# Altium footprint library ComponentsLib.PcbLib: 13 footprints
Each footprint in its own frame and in the unit in brackets; x right, y up, seen from the top. Pads: shape width x height; smd on the part's side, far side on the other; paste and mask are expansions set on the pad; w line width, h text height; cw(c..) or ccw(c..) is an arc to the next point about the centre after c.
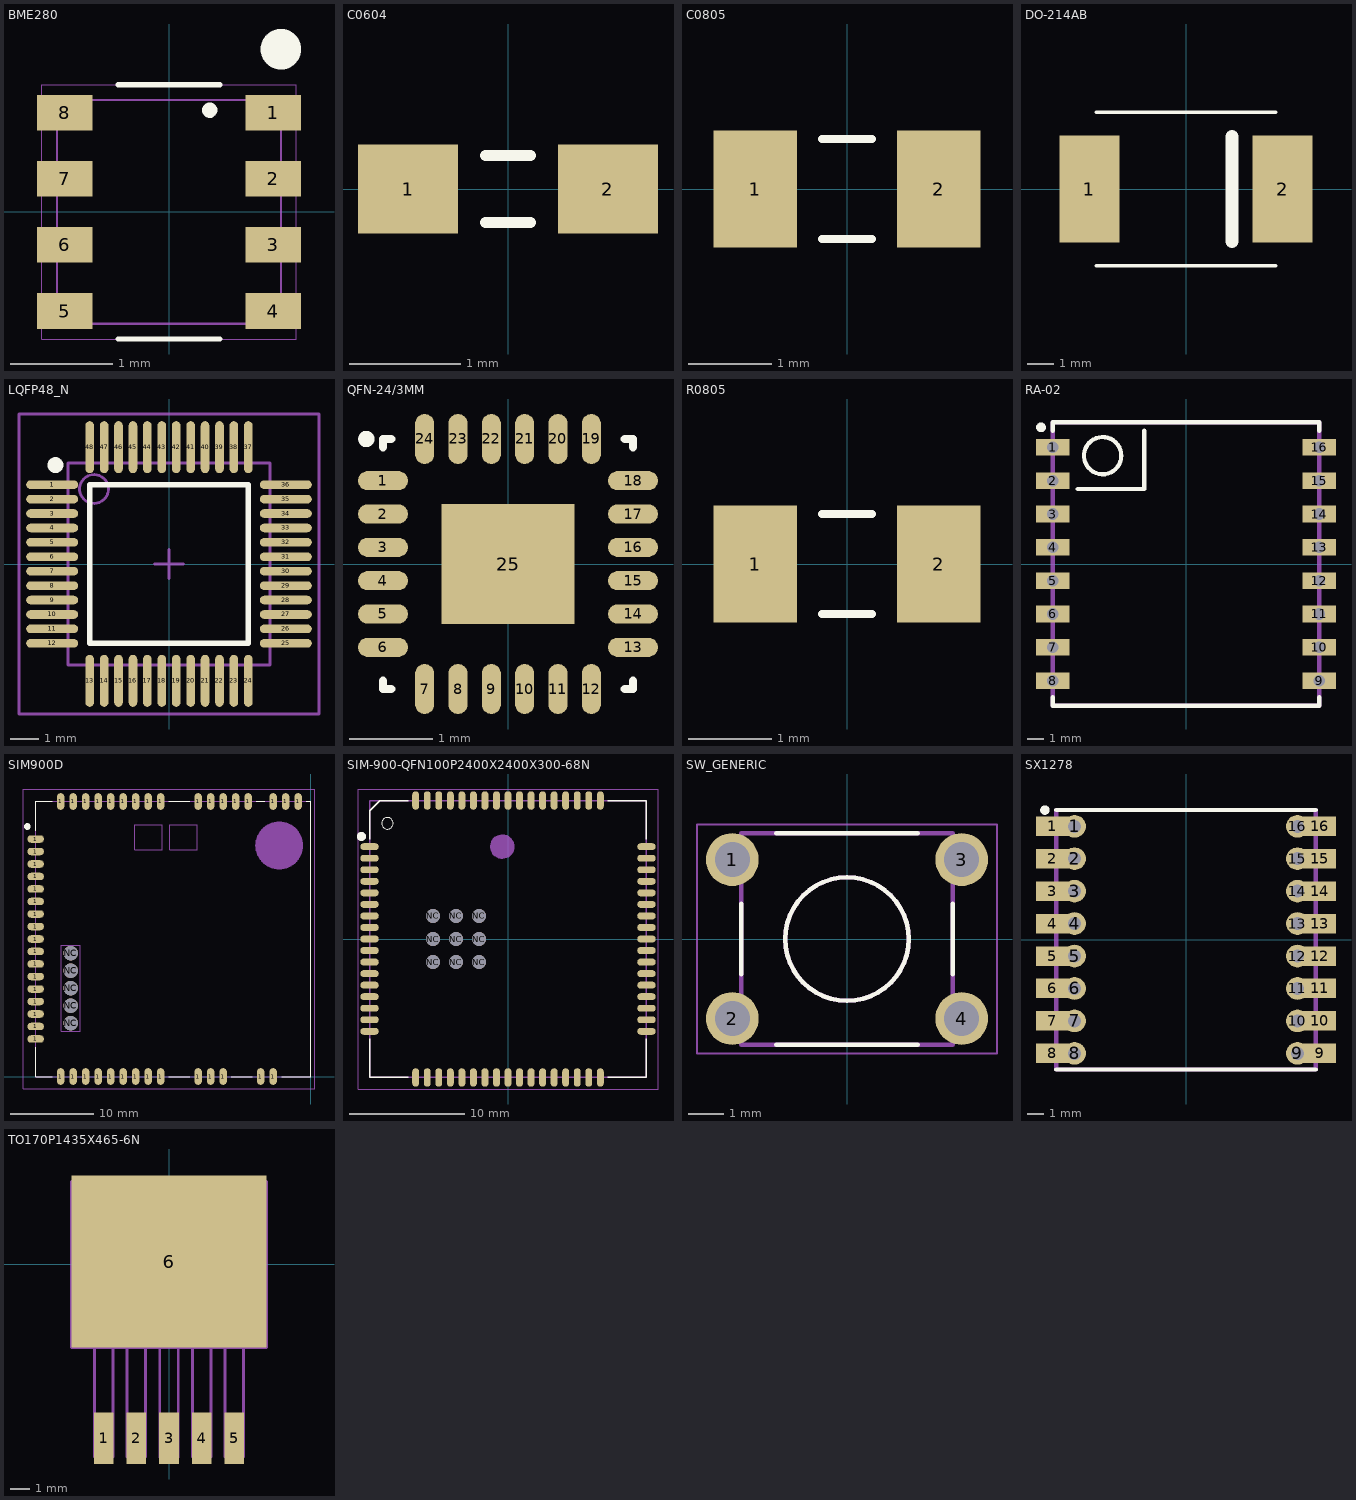
[diagram p0: the footprints below, top view; thin cyan lines are the x and y axes]

## BME280 [mm]
pads (8):
  rect 0.55x0.35 smd: 1(1.025,0.975) 2(1.025,0.325) 3(1.025,-0.325) 4(1.025,-0.975) 5(-1.025,-0.975) 6(-1.025,-0.325) 7(-1.025,0.325) 8(-1.025,0.975)
Top Overlay:
  circle w0.1: c0.4,1 r0.025
  circle w0.2: c1.1,1.6 r0.1
  lines w0.05: -0.5,-1.25 0.5,-1.25 ; -0.5,1.25 0.5,1.25
Mechanical 1:
  lines w0.01: -1.25,-1.25 1.25,-1.25 1.25,1.25 -1.25,1.25 -1.25,-1.25
  lines w0.02: -1.1,-1 -1.1,1 ; -1,-1.1 1,-1.1 ; -1,1.1 1,1.1 ; 1.1,-1 1.1,1
3D body "User Library-Bosch_BME280.step": height 0.93, standoff 0, extent -1.25,-1.25 1.25,1.25

## C0604 [mm]
pads (2):
  rect 0.9x0.8 smd: 1(-0.9,0) 2(0.9,0)
Top Overlay:
  lines w0.1: -0.2,-0.3 0.2,-0.3 ; -0.2,0.3 0.2,0.3
3D body "User Library-C0603-2.step": height 0.8, standoff 0, extent -0.8,-0.4 0.8,0.4

## C0805 [mm]
pads (2):
  rect 1x1.4 smd: 1(-1.1,0) 2(1.1,0)
Top Overlay:
  lines w0.1: -0.3,-0.6 0.3,-0.6 ; -0.3,0.6 0.3,0.6
3D body "User Library-C0805-2.step": height 0.8, standoff 0, extent -1,-0.625 1,0.625

## DO-214AB [mil]
pads (2):
  rect 90x160 smd: 1(-145,0) 2(145,0)
Top Overlay:
  lines w5: -135,-115 135,-115 ; -135,115 135,115
  lines w20: 68.9,-78.74 68.9,78.74
3D body "User Library-DO-214AB-SMC.step": height 98.46, standoff 1.97, extent -153.54,-116.14 153.54,116.14

## LQFP48_N [mm] "Thin QFP, 48-Leads, Body 7x7mm, Pitch 0.5mm, IPC Medium Density"
height 1.6
pads (48):
  oval 1.8x0.3 smd: 1(-4.05,2.75) 2(-4.05,2.25) 3(-4.05,1.75) 4(-4.05,1.25) 5(-4.05,0.75) 6(-4.05,0.25) 7(-4.05,-0.25) 8(-4.05,-0.75) 9(-4.05,-1.25) 10(-4.05,-1.75) 11(-4.05,-2.25) 12(-4.05,-2.75) 25(4.05,-2.75) 26(4.05,-2.25) 27(4.05,-1.75) 28(4.05,-1.25) 29(4.05,-0.75) 30(4.05,-0.25) 31(4.05,0.25) 32(4.05,0.75) 33(4.05,1.25) 34(4.05,1.75) 35(4.05,2.25) 36(4.05,2.75)
  oval 0.3x1.8 smd: 13(-2.75,-4.05) 14(-2.25,-4.05) 15(-1.75,-4.05) 16(-1.25,-4.05) 17(-0.75,-4.05) 18(-0.25,-4.05) 19(0.25,-4.05) 20(0.75,-4.05) 21(1.25,-4.05) 22(1.75,-4.05) 23(2.25,-4.05) 24(2.75,-4.05) 37(2.75,4.05) 38(2.25,4.05) 39(1.75,4.05) 40(1.25,4.05) 41(0.75,4.05) 42(0.25,4.05) 43(-0.25,4.05) 44(-0.75,4.05) 45(-1.25,4.05) 46(-1.75,4.05) 47(-2.25,4.05) 48(-2.75,4.05)
Top Overlay:
  circle w0.3: c-3.937,3.429 r0.127
  lines w0.2: -2.75,-2.75 2.75,-2.75 2.75,2.75 -2.75,2.75 -2.75,-2.75
Mechanical 13:
  circle w0.1: c-2.6,2.6 r0.5
  lines w0.1: -3.5,-3.5 3.5,-3.5 3.5,3.5 -3.5,3.5 -3.5,-3.5
Mechanical 15:
  lines w0.1: -0.5,0 0.5,0 ; 0,-0.5 0,0.5 ; -5.2,-5.2 5.2,-5.2 5.2,5.2 -5.2,5.2 -5.2,-5.2
3D body "User Library-LQFP50P900X900X160.STEP": height 1.6, standoff 0, extent -4.5,-4.5 4.5,4.5

## QFN-24/3MM [mm]
pads (25):
  oval 0.6x0.23 smd: 1(-1.5,1) 2(-1.5,0.6) 3(-1.5,0.2) 4(-1.5,-0.2) 5(-1.5,-0.6) 6(-1.5,-1) 13(1.5,-1) 14(1.5,-0.6) 15(1.5,-0.2) 16(1.5,0.2) 17(1.5,0.6) 18(1.5,1)
  oval 0.23x0.6 smd: 7(-1,-1.5) 8(-0.6,-1.5) 9(-0.2,-1.5) 10(0.2,-1.5) 11(0.6,-1.5) 12(1,-1.5) 19(1,1.5) 20(0.6,1.5) 21(0.2,1.5) 22(-0.2,1.5) 23(-0.6,1.5) 24(-1,1.5)
  rect 1.6x1.44 smd: 25(0,0)
Top Overlay:
  circle w0.1: c-1.7,1.5 r0.048
  lines w0.1: -1.5,-1.4 -1.5,-1.5 -1.4,-1.5 ; -1.5,1.4 -1.5,1.5 -1.4,1.5 ; 1.4,-1.5 1.5,-1.5 1.5,-1.4 ; 1.4,1.5 1.5,1.5 1.5,1.4
3D body "User Library-MPU9250.step": height 1, standoff -0.05, extent -1.51,-1.51 1.51,1.51

## R0805 [mm]
pads (2):
  rect 1x1.4 smd: 1(-1.1,0) 2(1.1,0)
Top Overlay:
  lines w0.1: -0.3,-0.6 0.3,-0.6 ; -0.3,0.6 0.3,0.6
3D body "User Library-RES_2013-0805.step": height 0.76, standoff 0, extent -1.15,-0.675 1.15,0.675

## RA-02 [mm]
pads (16):
  rect 2x1 hole 0.7: 1(-8,7) 2(-8,5) 3(-8,3) 4(-8,1) 5(-8,-1) 6(-8,-3) 7(-8,-5) 8(-8,-7) 9(8,-7) 10(8,-5) 11(8,-3) 12(8,-1) 13(8,1) 14(8,3) 15(8,5) 16(8,7)
Top Overlay:
  circle w0.38: c-8.7,8.2 r0.1
  circle w0.254: c-5,6.5 r1.118
  lines w0.254: -8,-8 -8,-8.5 8,-8.5 8,-8 ; -8,8 -8,8.5 8,8.5 8,8 ; -6.5,4.5 -2.5,4.5 -2.5,8
Mechanical 1:
  lines w0.254: -8,-8.5 8,-8.5 8,8.5 -8,8.5 -8,-8.5
3D body: height 3.2, standoff 0.2, extent -7,-8 7,8
3D body: height 1, standoff 0.1, extent -8,-8.5 8,8.5
3D body "User Library-Microaxial RF connector.step": height 2.35, standoff 1.09, extent -6.5,4.95 -3.5,8.05

## SIM900D [mm]
pads (53):
  oval 2x0.9 smd: 1(-33,4.5) 1(-33,6) 1(-33,7.5) 1(-33,9) 1(-33,10.5) 1(-33,12) 1(-33,13.5) 1(-33,15) 1(-33,16.5) 1(-33,18) 1(-33,19.5) 1(-33,21) 1(-33,22.5) 1(-33,24) 1(-33,25.5) 1(-33,27) 1(-33,28.5)
  oval 0.9x2 smd: 1(-30,0) 1(-30,33) 1(-28.5,0) 1(-28.5,33) 1(-27,0) 1(-27,33) 1(-25.5,0) 1(-25.5,33) 1(-24,0) 1(-24,33) 1(-22.5,0) 1(-22.5,33) 1(-21,0) 1(-21,33) 1(-19.5,0) 1(-19.5,33) 1(-18,0) 1(-18,33) 1(-13.5,0) 1(-13.5,33) 1(-12,0) 1(-12,33) 1(-10.5,0) 1(-10.5,33) 1(-9,33) 1(-7.5,33) 1(-6,0) 1(-4.5,0) 1(-4.5,33) 1(-3,33) 1(-1.5,33)
  round 1.75 hole 1.75 unplated: NC(-28.8,6.4) NC(-28.8,8.5) NC(-28.8,10.6) NC(-28.8,12.7) NC(-28.8,14.8)
Top Overlay:
  circle w0.4: c-34,30 r0.2
  lines w0.127: -33,3.5 -33,0 -31,0 ; -33,29.5 -33,33 -31,33 ; -17,0 -14.5,0 ; -17,33 -14.5,33 ; -9.5,0 -7,0 ; -6.5,33 -5.5,33 ; -3.5,0 0,0 0,33 -0.5,33
Mechanical 1:
  circle w0.254: c-3.775,27.725 r2.75
  region: -6.5,27.75 -6.25,28.75 -5.75,29.75 -4.75,30.25 -3.75,30.5 -2.75,30.25 -1.75,29.75 -1.25,28.75 -1,27.75 -1.25,26.5 -1.75,25.75 -2.75,25.25 -3.75,25 -4.75,25.25 -5.75,25.75 -6.25,26.5
  lines w0.05: -34.5,-1.5 0.5,-1.5 0.5,34.5 -34.5,34.5 -34.5,-1.5 ; -29.95,5.45 -29.95,15.75 -27.65,15.75 -27.65,5.45 -29.95,5.45 ; -21.1,27.2 -21.1,30.2 -17.8,30.2 -17.8,27.2 -21.1,27.2 ; -16.9,27.2 -16.9,30.2 -13.6,30.2 -13.6,27.2 -16.9,27.2
  lines w0.127: -33,0 0,0 0,33 -33,33 -33,0
3D body "User Library-SIM900D.step": height 3.06, standoff 0, extent -33,0 0,33

## SIM-900-QFN100P2400X2400X300-68N [mm]
pads (77):
  oval 1.6x0.6 smd: 1(-12,8) 2(-12,7) 3(-12,6) 4(-12,5) 5(-12,4) 6(-12,3) 7(-12,2) 8(-12,1) 9(-12,0) 10(-12,-1) 11(-12,-2) 12(-12,-3) 13(-12,-4) 14(-12,-5) 15(-12,-6) 16(-12,-7) 17(-12,-8) 35(12,-8) 36(12,-7) 37(12,-6) 38(12,-5) 39(12,-4) 40(12,-3) 41(12,-2) 42(12,-1) 43(12,0) 44(12,1) 45(12,2) 46(12,3) 47(12,4) 48(12,5) 49(12,6) 50(12,7) 51(12,8)
  oval 0.6x1.6 smd: 18(-8,-12) 19(-7,-12) 20(-6,-12) 21(-5,-12) 22(-4,-12) 23(-3,-12) 24(-2,-12) 25(-1,-12) 26(0,-12) 27(1,-12) 28(2,-12) 29(3,-12) 30(4,-12) 31(5,-12) 32(6,-12) 33(7,-12) 34(8,-12) 52(8,12) 53(7,12) 54(6,12) 55(5,12) 56(4,12) 57(3,12) 58(2,12) 59(1,12) 60(0,12) 61(-1,12) 62(-2,12) 63(-3,12) 64(-4,12) 65(-5,12) 66(-6,12) 67(-7,12) 68(-8,12)
  round 1.2 hole 1.2 unplated: NC(-6.5,-2) NC(-6.5,0) NC(-6.5,2) NC(-4.5,-2) NC(-4.5,0) NC(-4.5,2) NC(-2.5,-2) NC(-2.5,0) NC(-2.5,2)
Top Overlay:
  circle w0.4: c-12.7,8.89 r0.2
  circle w0: c-10.45,10.025 r0.5
  lines w0.127: -12,-8.636 -12,-12 -8.636,-12 ; -12,8.636 -12,11.1 -11.1,12 -8.636,12 ; 8.636,-12 12,-12 12,-8.636 ; 8.636,12 12,12 12,8.636
Mechanical 1:
  circle w0.127: c-0.5,8 r1
  circle w0.127: c-0.5,8 r1
  region: -1.5,8 -1.5,8.026 -1.497,8.078 -1.492,8.131 -1.484,8.182 -1.473,8.234 -1.459,8.284 -1.443,8.334 -1.424,8.383 -1.403,8.431 -1.379,8.477 -1.353,8.523 -1.324,8.567 -1.294,8.609 -1.261,8.65 -1.226,8.689 -1.189,8.726 -1.15,8.761 -1.109,8.794 -1.067,8.824 -1.023,8.853 -0.977,8.879 -0.931,8.903 -0.883,8.924 -0.834,8.943 -0.784,8.959 -0.734,8.973 -0.682,8.984 -0.631,8.992 -0.578,8.997 -0.526,9 -0.5,9 -0.474,9 -0.422,8.997 -0.369,8.992 -0.318,8.984 -0.266,8.973 -0.216,8.959 -0.166,8.943 -0.117,8.924 -0.069,8.903 -0.023,8.879 0.023,8.853 0.067,8.824 0.109,8.794 0.15,8.761 0.189,8.726 0.226,8.689 0.261,8.65 0.294,8.609 0.324,8.567 0.353,8.523 0.379,8.477 0.403,8.431 0.424,8.383 0.443,8.334 0.459,8.284 0.473,8.234 0.484,8.182 0.492,8.131 0.497,8.078 0.5,8.026 0.5,8 0.5,7.974 0.497,7.922 0.492,7.869 0.484,7.818 0.473,7.766 0.459,7.716 0.443,7.666 0.424,7.617 0.403,7.569 0.379,7.523 0.353,7.477 0.324,7.433 0.294,7.391 0.261,7.35 0.226,7.311 0.189,7.274 0.15,7.239 0.109,7.206 0.067,7.176 0.023,7.147 -0.023,7.121 -0.069,7.097 -0.117,7.076 -0.166,7.057 -0.216,7.041 -0.266,7.027 -0.318,7.016 -0.369,7.008 -0.422,7.003 -0.474,7 -0.5,7 -0.526,7 -0.578,7.003 -0.631,7.008 -0.682,7.016 -0.734,7.027 -0.784,7.041 -0.834,7.057 -0.883,7.076 -0.931,7.097 -0.977,7.121 -1.023,7.147 -1.067,7.176 -1.109,7.206 -1.15,7.239 -1.189,7.274 -1.226,7.311 -1.261,7.35 -1.294,7.391 -1.324,7.433 -1.353,7.477 -1.379,7.523 -1.403,7.569 -1.424,7.617 -1.443,7.666 -1.459,7.716 -1.473,7.766 -1.484,7.818 -1.492,7.869 -1.497,7.922 -1.5,7.974
  lines w0.05: -13,-13 13,-13 13,13 -13,13 -13,-13
  lines w0.127: -12,-12 -12,12 12,12 12,-12 -12,-12
3D body "User Library-SIM900.step": height 3.02, standoff 0, extent -12,-12 12,12

## SW_GENERIC [mm]
pads (4):
  round 1.498 hole 0.99: 1(-3.25,2.25) 2(-3.25,-2.25) 3(3.25,2.25) 4(3.25,-2.25)
Top Overlay:
  circle w0.127: c0,0 r1.75
  lines w0.127: -3,-1 -3,1 ; -2,-3 2,-3 ; -2,3 2,3 ; 3,-1 3,1
Mechanical 1:
  circle w0.4: c-3.25,2.25 r0.2
  circle w0.127: c0,0 r1.75
  lines w0.05: -4.25,-3.245 -4.25,3.25 4.25,3.25 4.25,-3.245 -4.25,-3.245
  lines w0.127: -2.995,-2.995 2.995,-2.995 2.995,2.995 -2.995,2.995 -2.995,-2.995
3D body "43359.stp": height 4.3, standoff -3.5, extent -3.95,-3.1 3.95,3.1

## SX1278 [mm]
pads (32):
  rect 2x1.2 smd: 1(-8.25,7) 2(-8.25,5) 3(-8.25,3) 4(-8.25,1) 5(-8.25,-1) 6(-8.25,-3) 7(-8.25,-5) 8(-8.25,-7) 9(8.25,-7) 10(8.25,-5) 11(8.25,-3) 12(8.25,-1) 13(8.25,1) 14(8.25,3) 15(8.25,5) 16(8.25,7)
  round 1.4 hole 0.8: 1(-6.875,7) 2(-6.875,5) 3(-6.875,3) 4(-6.875,1) 5(-6.875,-1) 6(-6.875,-3) 7(-6.875,-5) 8(-6.875,-7) 9(6.875,-7) 10(6.875,-5) 11(6.875,-3) 12(6.875,-1) 13(6.875,1) 14(6.875,3) 15(6.875,5) 16(6.875,7)
Top Overlay:
  circle w0.38: c-8.7,8 r0.1
  lines w0.254: -8,-8 8,-8 ; -8,8 8,8
Mechanical 1:
  lines w0.254: -8,-8 8,-8 8,8 -8,8 -8,-8
3D body "User Library-RFM96W.STEP": height 2.29, standoff 0.06, extent -8,-7.95 8.002,7.95

## TO170P1435X465-6N [mil]
pads (6):
  rect 40x106 smd: 1(-134,-356) 2(-67,-356) 3(0,-356) 4(67,-356) 5(134,-356)
  rect 400x352 smd: 6(0,6)
Mechanical 1:
  lines w6: -200,-170 -200,170 200,170 200,-170 -200,-170 ; -153,-395 -115,-395 -115,-170 -153,-170 -153,-395 ; -86,-395 -48,-395 -48,-170 -86,-170 -86,-395 ; -19,-395 19,-395 19,-170 -19,-170 -19,-395 ; 48,-395 86,-395 86,-170 48,-170 48,-395 ; 115,-395 153,-395 153,-170 115,-170 115,-395
3D body "User Library-TO-263-5.STEP": height 179.53, standoff 0, extent -200,-383.86 200,167.91